# Altium footprint library PCB - CONNECTOR - USB - HARWIN USB M701-370442.PCBLIB: 1 footprints
Each footprint in its own frame and in the unit in brackets; x right, y up, seen from the top. Pads: shape width x height; smd on the part's side, far side on the other; paste and mask are expansions set on the pad; w line width, h text height; cw(c..) or ccw(c..) is an arc to the next point about the centre after c.
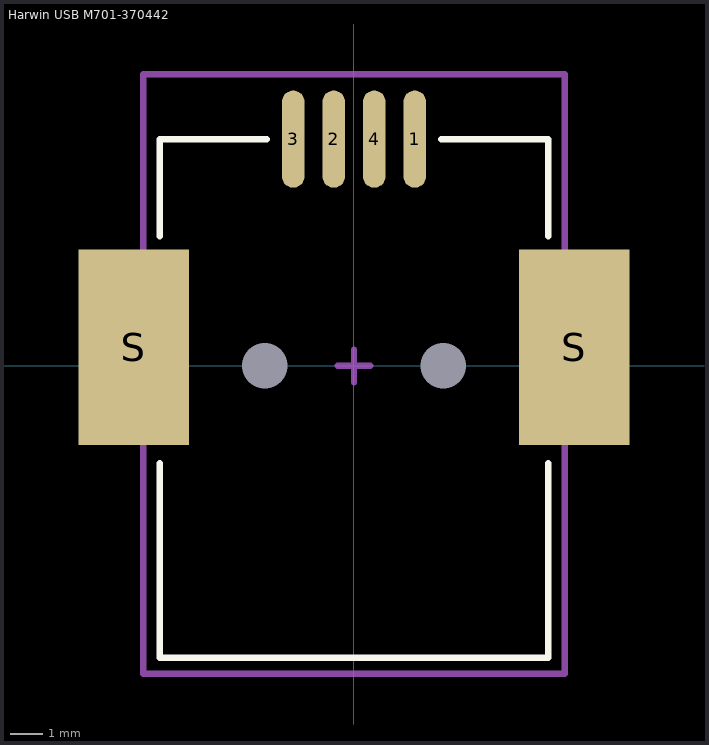
[diagram p0: the footprint, top view; thin cyan lines are the x and y axes]

## Harwin USB M701-370442 [mm]
height 11
pads (8):
  oval 0.7x3 smd: 1(1.875,7) 2(-0.625,7) 3(-1.875,7) 4(0.625,7)
  rect 0x0 hole 1.4 unplated: M(-2.75,0) M(2.75,0)
  rect 3.4x6.04 smd: S(-6.8,0.58) S(6.8,0.58)
Top Overlay:
  lines w0.2: -6,-3 -6,-9 0,-9 6,-9 6,-3 ; -6,4 -6,7 -2.7,7 ; 2.7,7 6,7 6,4
Mechanical 15:
  lines w0.2: -0.5,0 0.5,0 ; 0,-0.5 0,0.5 ; -6.5,-9.5 -6.5,9 0,9 6.5,9 6.5,-9.5 0,-9.5 -6.5,-9.5
3D body "Harwin M701-370442.STEP": height 11, standoff -1.5, extent -8.1,-9 8.1,8.15